# EAGLE library part 62000611121 (library Wuerth_Elektronik_eiCan_Pin_&_Socked_Headers_v1.3)
WR-PHD 2.00mm Pin Header, 6 Pins
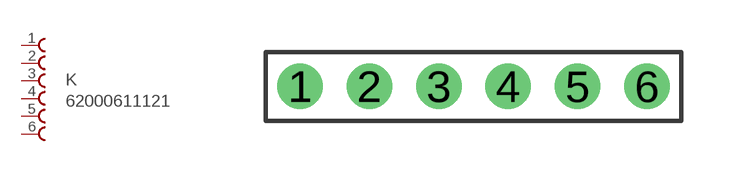
[diagram p265: symbol with the pads of 62000611121; footprint 62000611121]

Designator prefix K

## 62000611121  [62000611121]
1  1  pas
2  2  pas
3  3  pas
4  4  pas
5  5  pas
6  6  pas

## Footprint 62000611121 (pad centres in mm)
WR-PHD 2.00mm Pin Header, 6 Pins
drill 0.8 round: 1 -5,0; 2 -3,0; 3 -1,0; 4 1,0; 5 3,0; 6 5,0